# EAGLE library part FAN3227TMX (library DO NOT USE gwu_mpnl)
FAN3227TMX (Fairchild Semiconductor) Dual 2A High-Speed, Low-Side Gate Drivers SOIC8
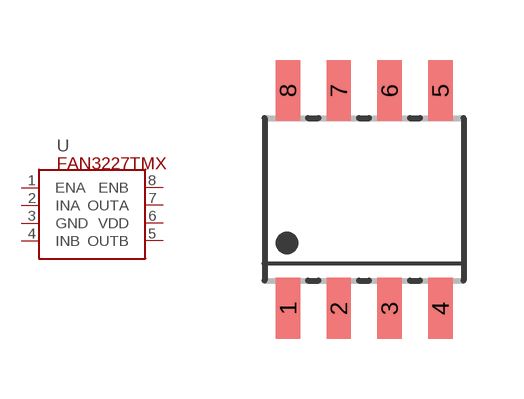
[diagram p0: symbol with the pads of SOIC8; footprint SOIC8]

Designator prefix U

## FAN3227TMX  [SOIC8]
1  ENA
2  INA
3  GND
4  INB
5  OUTB
6  VDD
7  OUTA
8  ENB

## Footprint SOIC8 (pad centres in mm)
smd 0.61 x 1.52: 1 -1.905,-2.723; 2 -0.635,-2.723; 3 0.635,-2.723; 4 1.905,-2.723; 5 1.905,2.723; 6 0.635,2.723; 7 -0.635,2.723; 8 -1.905,2.723